# Altium footprint library 32-VFQFN.PcbLib: 2 footprints
Each footprint in its own frame and in the unit in brackets; x right, y up, seen from the top. Pads: shape width x height; smd on the part's side, far side on the other; paste and mask are expansions set on the pad; w line width, h text height; cw(c..) or ccw(c..) is an arc to the next point about the centre after c.
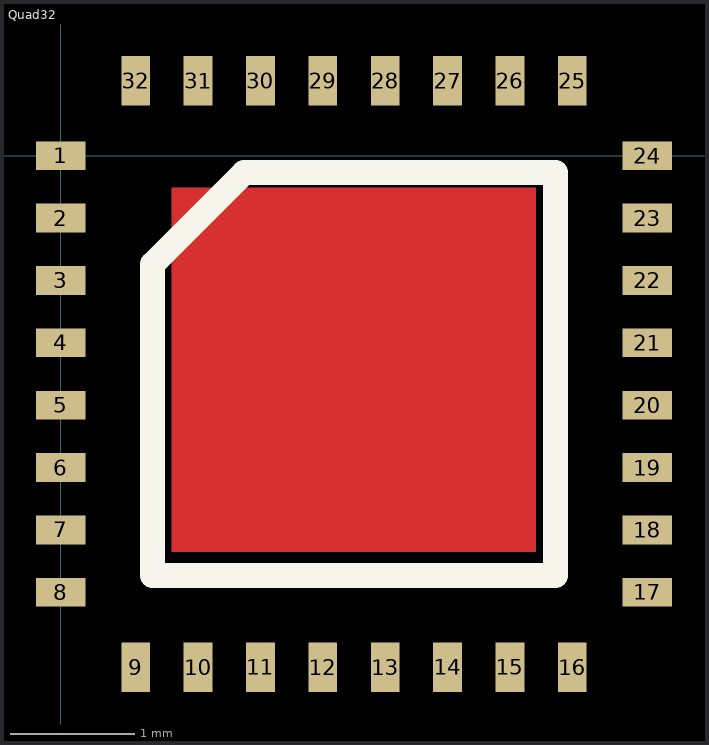
[diagram p0: the footprints below, top view; thin cyan lines are the x and y axes]

## PCBComponent_1 [mm]

## Quad32 [mm]
pads (32):
  rect 0.4x0.23 smd: 1(0,0) 2(0,-0.5) 3(0,-1) 4(0,-1.5) 5(0,-2) 6(0,-2.5) 7(0,-3) 8(0,-3.5) 17(4.7,-3.5) 18(4.7,-3) 19(4.7,-2.5) 20(4.7,-2) 21(4.7,-1.5) 22(4.7,-1) 23(4.7,-0.5) 24(4.7,0)
  rect 0.23x0.4 smd: 9(0.6,-4.1) 10(1.1,-4.1) 11(1.6,-4.1) 12(2.1,-4.1) 13(2.6,-4.1) 14(3.1,-4.1) 15(3.6,-4.1) 16(4.1,-4.1) 25(4.1,0.6) 26(3.6,0.6) 27(3.1,0.6) 28(2.6,0.6) 29(2.1,0.6) 30(1.6,0.6) 31(1.1,0.6) 32(0.6,0.6)
Top Layer:
  rectangle: 0.889,-3.175 3.81,-0.254
Top Overlay:
  lines w0.2: 0.735,-3.365 0.735,-0.87 1.47,-0.135 3.965,-0.135 3.965,-3.365 0.735,-3.365